# EAGLE library part LP2989 (library lm2989-so8)
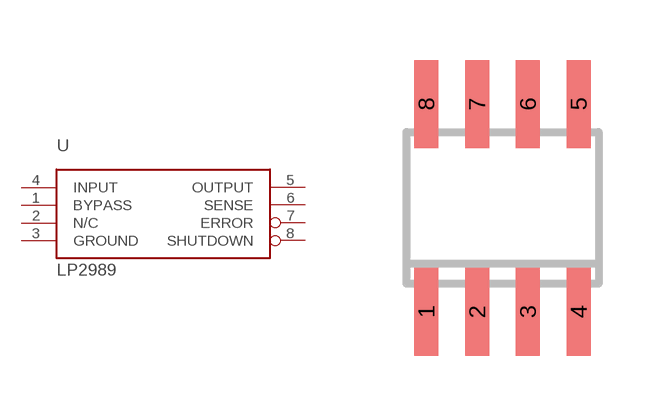
[diagram p0: symbol with the pads of SO-08; footprint SO-08]

Designator prefix -

## LP2989  [SO-08]
1  BYPASS
2  N/C  nc
3  GROUND
4  INPUT
5  OUTPUT
6  SENSE
7  ERROR
8  SHUTDOWN

## Footprint SO-08 (pad centres in mm)
Small Outline Narrow Plastic Gull Wing 150-mil body, package type SN
smd 0.6 x 2.2: 1 -1.905,-2.6; 2 -0.635,-2.6; 3 0.635,-2.6; 4 1.905,-2.6; 5 1.905,2.6; 6 0.635,2.6; 7 -0.635,2.6; 8 -1.905,2.6